# EAGLE library part TE0720 (library TE0720 GigaZee.LIB-Eagle)
TE0720 datasheets LSHM Connector <http://www.samtec.com/ProductInformation/TechnicalSpecifications/Prints.aspx?series=LSHM> TE0720 Trenz archive <http://www.trenz-electronic.de/de/download/d0/Trenz_Electronic/d1/TE0720-GigaZee.html> update 26.07.2013: - FPGA pins added to symbols, see https://wiki.trenz-electronic.de/display/TE0720/Pinout update 07.04.2014: - typo B34_L10_P and B23_L10_N had wrong FPGA pin designed by: steffen.mauch (at) gmail.com copyright (c) 2013
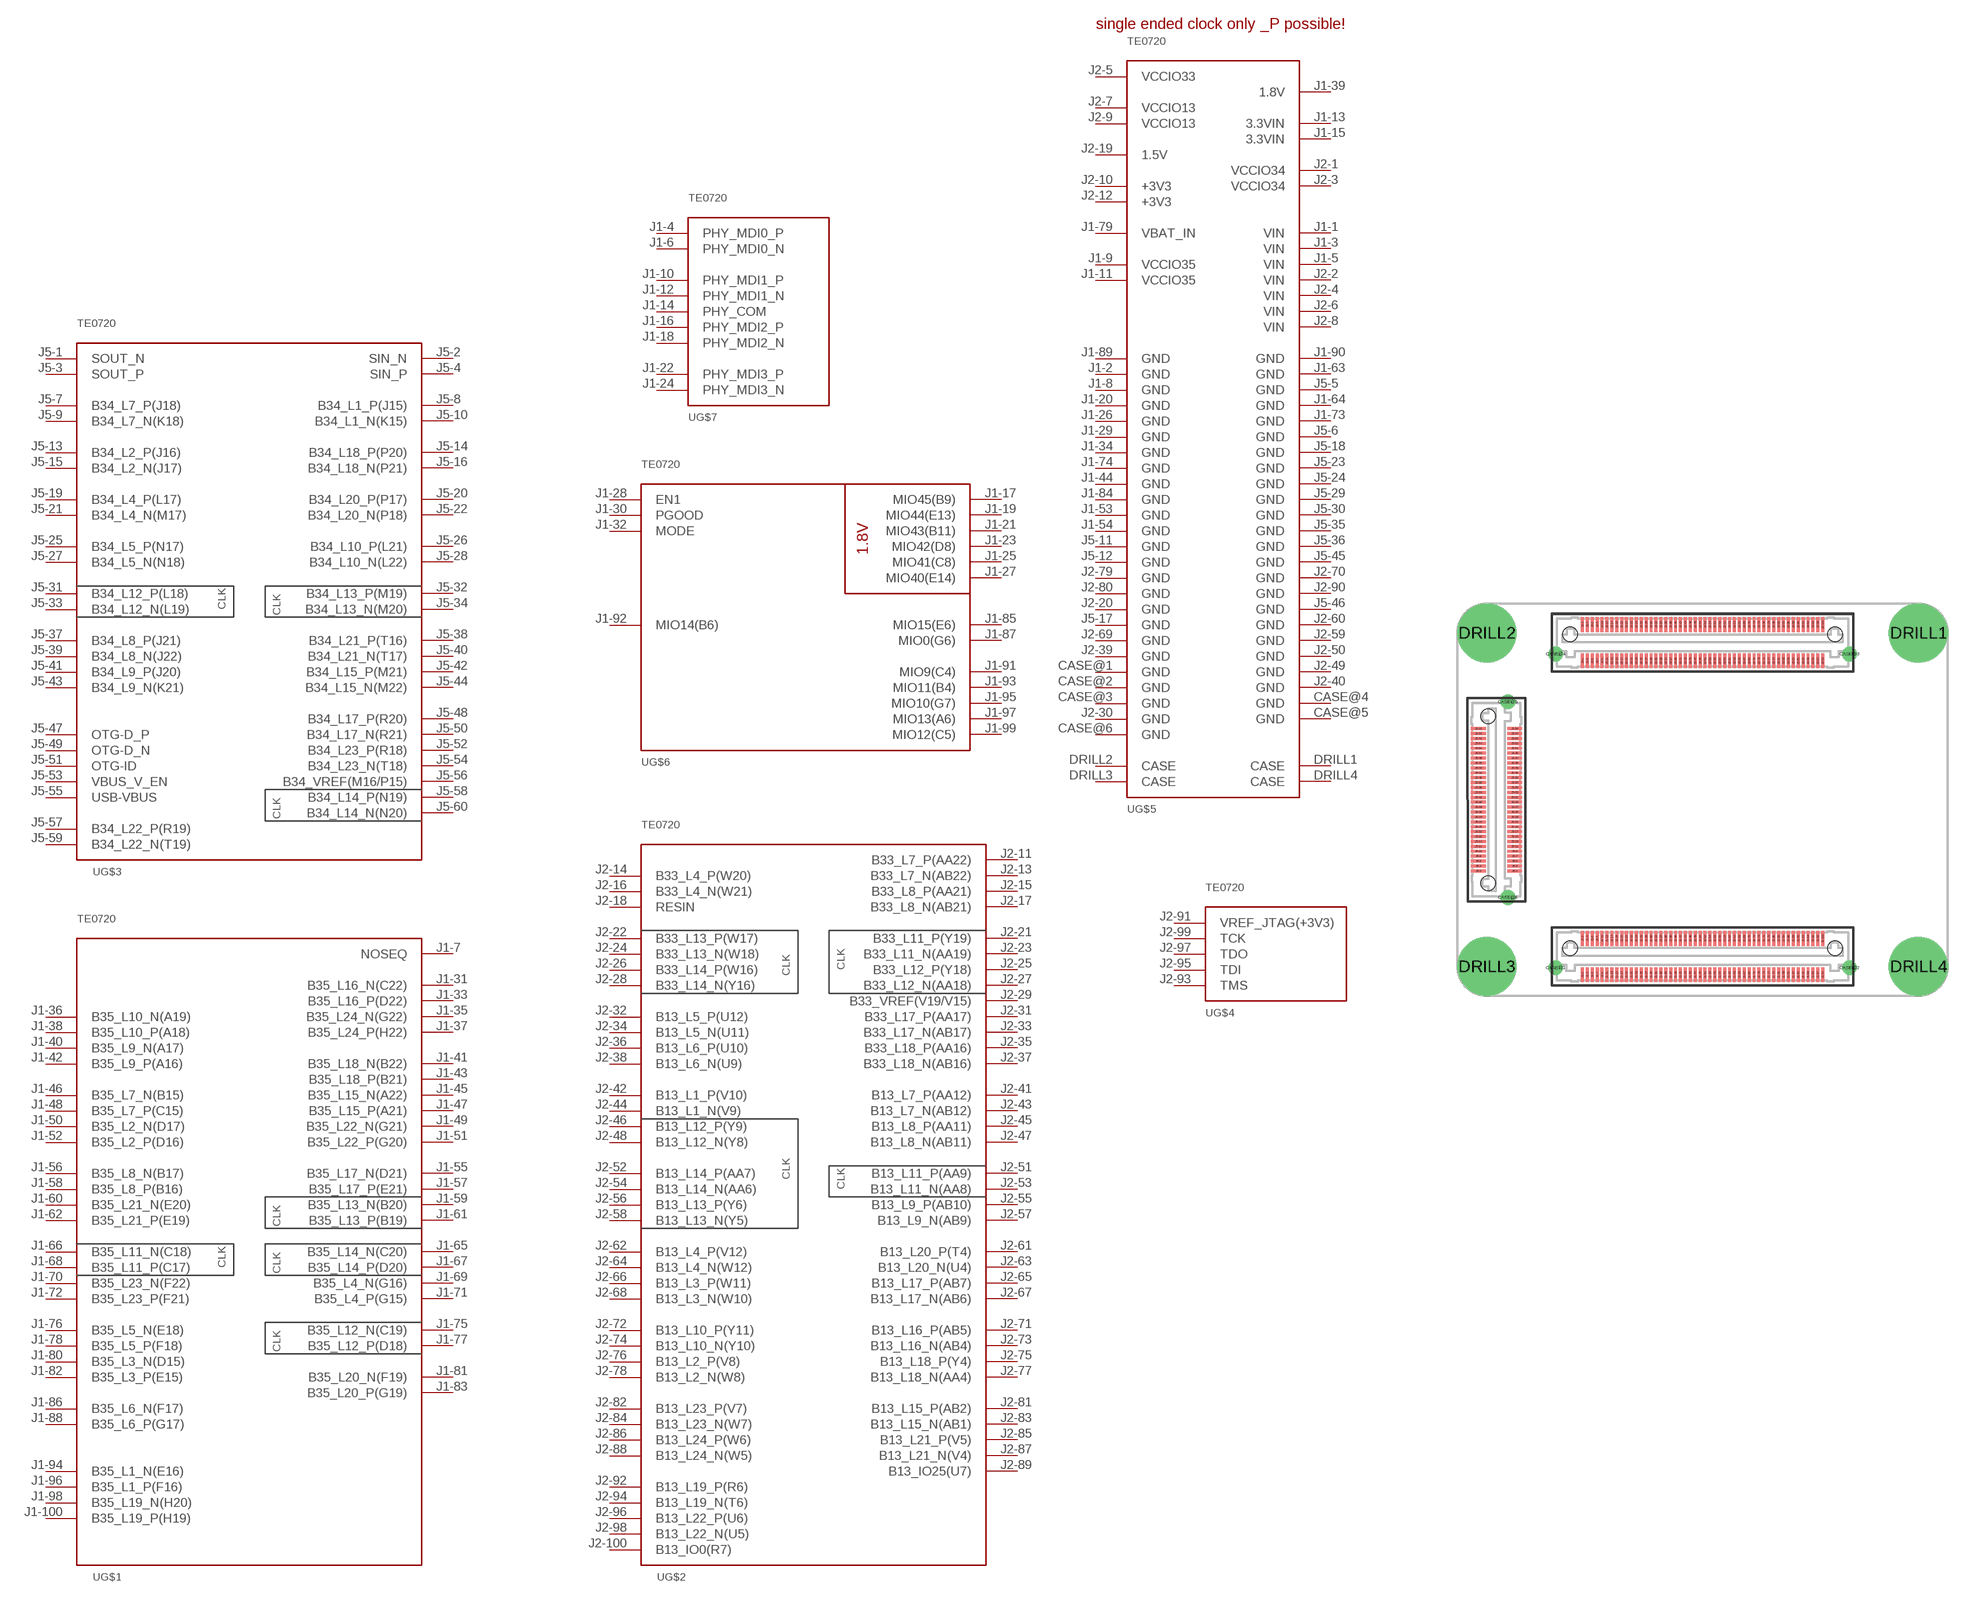
[diagram p0: symbol with the pads of TE07XX-01; footprint TE07XX-01]

Designator prefix -; gates G$1=TE0720-J1 G$2=TE0720-J2 G$3=TE0720-J5 G$6=TE0720-MIO G$5=TE0720-PWR G$4=TE0720-JTAG G$7=TE0720-PHY

## TE0720  [TE07XX-01]
CASE@1  G$5:GND  sup
CASE@2  G$5:GND  sup
CASE@3  G$5:GND  sup
CASE@4  G$5:GND  sup
CASE@5  G$5:GND  sup
CASE@6  G$5:GND  sup
DRILL1  G$5:CASE  sup
DRILL2  G$5:CASE  sup
DRILL3  G$5:CASE  sup
DRILL4  G$5:CASE  sup
J1-1  G$5:VIN  pwr
J1-2  G$5:GND  sup
J1-3  G$5:VIN  pwr
J1-4  G$7:PHY_MDI0_P
J1-5  G$5:VIN  pwr
J1-6  G$7:PHY_MDI0_N
J1-7  G$1:NOSEQ
J1-8  G$5:GND  sup
J1-9  G$5:VCCIO35
J1-10  G$7:PHY_MDI1_P
J1-11  G$5:VCCIO35
J1-12  G$7:PHY_MDI1_N
J1-13  G$5:3.3VIN  pwr
J1-14  G$7:PHY_COM
J1-15  G$5:3.3VIN  pwr
J1-16  G$7:PHY_MDI2_P
J1-17  G$6:MIO45(B9)
J1-18  G$7:PHY_MDI2_N
J1-19  G$6:MIO44(E13)
J1-20  G$5:GND  sup
J1-21  G$6:MIO43(B11)
J1-22  G$7:PHY_MDI3_P
J1-23  G$6:MIO42(D8)
J1-24  G$7:PHY_MDI3_N
J1-25  G$6:MIO41(C8)
J1-26  G$5:GND  sup
J1-27  G$6:MIO40(E14)
J1-28  G$6:EN1
J1-29  G$5:GND  sup
J1-30  G$6:PGOOD
J1-31  G$1:B35_L16_N(C22)
J1-32  G$6:MODE
J1-33  G$1:B35_L16_P(D22)
J1-34  G$5:GND  sup
J1-35  G$1:B35_L24_N(G22)
J1-36  G$1:B35_L10_N(A19)
J1-37  G$1:B35_L24_P(H22)
J1-38  G$1:B35_L10_P(A18)
J1-39  G$5:1.8V
J1-40  G$1:B35_L9_N(A17)
J1-41  G$1:B35_L18_N(B22)
J1-42  G$1:B35_L9_P(A16)
J1-43  G$1:B35_L18_P(B21)
J1-44  G$5:GND  sup
J1-45  G$1:B35_L15_N(A22)
J1-46  G$1:B35_L7_N(B15)
J1-47  G$1:B35_L15_P(A21)
J1-48  G$1:B35_L7_P(C15)
J1-49  G$1:B35_L22_N(G21)
J1-50  G$1:B35_L2_N(D17)
J1-51  G$1:B35_L22_P(G20)
J1-52  G$1:B35_L2_P(D16)
J1-53  G$5:GND  sup
J1-54  G$5:GND  sup
J1-55  G$1:B35_L17_N(D21)
J1-56  G$1:B35_L8_N(B17)
J1-57  G$1:B35_L17_P(E21)
J1-58  G$1:B35_L8_P(B16)
J1-59  G$1:B35_L13_N(B20)
J1-60  G$1:B35_L21_N(E20)
J1-61  G$1:B35_L13_P(B19)
J1-62  G$1:B35_L21_P(E19)
J1-63  G$5:GND  sup
J1-64  G$5:GND  sup
J1-65  G$1:B35_L14_N(C20)
J1-66  G$1:B35_L11_N(C18)
J1-67  G$1:B35_L14_P(D20)
J1-68  G$1:B35_L11_P(C17)
J1-69  G$1:B35_L4_N(G16)
J1-70  G$1:B35_L23_N(F22)
J1-71  G$1:B35_L4_P(G15)
J1-72  G$1:B35_L23_P(F21)
J1-73  G$5:GND  sup
J1-74  G$5:GND  sup
J1-75  G$1:B35_L12_N(C19)
J1-76  G$1:B35_L5_N(E18)
J1-77  G$1:B35_L12_P(D18)
J1-78  G$1:B35_L5_P(F18)
J1-79  G$5:VBAT_IN  sup
J1-80  G$1:B35_L3_N(D15)
J1-81  G$1:B35_L20_N(F19)
J1-82  G$1:B35_L3_P(E15)
J1-83  G$1:B35_L20_P(G19)
J1-84  G$5:GND  sup
J1-85  G$6:MIO15(E6)
J1-86  G$1:B35_L6_N(F17)
J1-87  G$6:MIO0(G6)
J1-88  G$1:B35_L6_P(G17)
J1-89  G$5:GND  sup
J1-90  G$5:GND  sup
J1-91  G$6:MIO9(C4)
J1-92  G$6:MIO14(B6)
J1-93  G$6:MIO11(B4)
J1-94  G$1:B35_L1_N(E16)
J1-95  G$6:MIO10(G7)
J1-96  G$1:B35_L1_P(F16)
J1-97  G$6:MIO13(A6)
J1-98  G$1:B35_L19_N(H20)
J1-99  G$6:MIO12(C5)
J1-100  G$1:B35_L19_P(H19)
J2-1  G$5:VCCIO34  pwr
J2-2  G$5:VIN  pwr
J2-3  G$5:VCCIO34  pwr
J2-4  G$5:VIN  pwr
J2-5  G$5:VCCIO33  pwr
J2-6  G$5:VIN  pwr
J2-7  G$5:VCCIO13  pwr
J2-8  G$5:VIN  pwr
J2-9  G$5:VCCIO13  pwr
J2-10  G$5:+3V3  pwr
J2-11  G$2:B33_L7_P(AA22)
J2-12  G$5:+3V3  pwr
J2-13  G$2:B33_L7_N(AB22)
J2-14  G$2:B33_L4_P(W20)
J2-15  G$2:B33_L8_P(AA21)
J2-16  G$2:B33_L4_N(W21)
J2-17  G$2:B33_L8_N(AB21)
J2-18  G$2:RESIN  in
J2-19  G$5:1.5V  sup
J2-20  G$5:GND  sup
J2-21  G$2:B33_L11_P(Y19)
J2-22  G$2:B33_L13_P(W17)
J2-23  G$2:B33_L11_N(AA19)
J2-24  G$2:B33_L13_N(W18)
J2-25  G$2:B33_L12_P(Y18)
J2-26  G$2:B33_L14_P(W16)
J2-27  G$2:B33_L12_N(AA18)
J2-28  G$2:B33_L14_N(Y16)
J2-29  G$2:B33_VREF(V19/V15)
J2-30  G$5:GND  sup
J2-31  G$2:B33_L17_P(AA17)
J2-32  G$2:B13_L5_P(U12)
J2-33  G$2:B33_L17_N(AB17)
J2-34  G$2:B13_L5_N(U11)
J2-35  G$2:B33_L18_P(AA16)
J2-36  G$2:B13_L6_P(U10)
J2-37  G$2:B33_L18_N(AB16)
J2-38  G$2:B13_L6_N(U9)
J2-39  G$5:GND  sup
J2-40  G$5:GND  sup
J2-41  G$2:B13_L7_P(AA12)
J2-42  G$2:B13_L1_P(V10)
J2-43  G$2:B13_L7_N(AB12)
J2-44  G$2:B13_L1_N(V9)
J2-45  G$2:B13_L8_P(AA11)
J2-46  G$2:B13_L12_P(Y9)
J2-47  G$2:B13_L8_N(AB11)
J2-48  G$2:B13_L12_N(Y8)
J2-49  G$5:GND  sup
J2-50  G$5:GND  sup
J2-51  G$2:B13_L11_P(AA9)
J2-52  G$2:B13_L14_P(AA7)
J2-53  G$2:B13_L11_N(AA8)
J2-54  G$2:B13_L14_N(AA6)
J2-55  G$2:B13_L9_P(AB10)
J2-56  G$2:B13_L13_P(Y6)
J2-57  G$2:B13_L9_N(AB9)
J2-58  G$2:B13_L13_N(Y5)
J2-59  G$5:GND  sup
J2-60  G$5:GND  sup
J2-61  G$2:B13_L20_P(T4)
J2-62  G$2:B13_L4_P(V12)
J2-63  G$2:B13_L20_N(U4)
J2-64  G$2:B13_L4_N(W12)
J2-65  G$2:B13_L17_P(AB7)
J2-66  G$2:B13_L3_P(W11)
J2-67  G$2:B13_L17_N(AB6)
J2-68  G$2:B13_L3_N(W10)
J2-69  G$5:GND  sup
J2-70  G$5:GND  sup
J2-71  G$2:B13_L16_P(AB5)
J2-72  G$2:B13_L10_P(Y11)
J2-73  G$2:B13_L16_N(AB4)
J2-74  G$2:B13_L10_N(Y10)
J2-75  G$2:B13_L18_P(Y4)
J2-76  G$2:B13_L2_P(V8)
J2-77  G$2:B13_L18_N(AA4)
J2-78  G$2:B13_L2_N(W8)
J2-79  G$5:GND  sup
J2-80  G$5:GND  sup
J2-81  G$2:B13_L15_P(AB2)
J2-82  G$2:B13_L23_P(V7)
J2-83  G$2:B13_L15_N(AB1)
J2-84  G$2:B13_L23_N(W7)
J2-85  G$2:B13_L21_P(V5)
J2-86  G$2:B13_L24_P(W6)
J2-87  G$2:B13_L21_N(V4)
J2-88  G$2:B13_L24_N(W5)
J2-89  G$2:B13_IO25(U7)
J2-90  G$5:GND  sup
J2-91  G$4:VREF_JTAG(+3V3)
J2-92  G$2:B13_L19_P(R6)
J2-93  G$4:TMS
J2-94  G$2:B13_L19_N(T6)
J2-95  G$4:TDI
J2-96  G$2:B13_L22_P(U6)
J2-97  G$4:TDO
J2-98  G$2:B13_L22_N(U5)
J2-99  G$4:TCK
J2-100  G$2:B13_IO0(R7)
J5-1  G$3:SOUT_N
J5-2  G$3:SIN_N
J5-3  G$3:SOUT_P
J5-4  G$3:SIN_P
J5-5  G$5:GND  sup
J5-6  G$5:GND  sup
J5-7  G$3:B34_L7_P(J18)
J5-8  G$3:B34_L1_P(J15)
J5-9  G$3:B34_L7_N(K18)
J5-10  G$3:B34_L1_N(K15)
J5-11  G$5:GND  sup
J5-12  G$5:GND  sup
J5-13  G$3:B34_L2_P(J16)
J5-14  G$3:B34_L18_P(P20)
J5-15  G$3:B34_L2_N(J17)
J5-16  G$3:B34_L18_N(P21)
J5-17  G$5:GND  sup
J5-18  G$5:GND  sup
J5-19  G$3:B34_L4_P(L17)
J5-20  G$3:B34_L20_P(P17)
J5-21  G$3:B34_L4_N(M17)
J5-22  G$3:B34_L20_N(P18)
J5-23  G$5:GND  sup
J5-24  G$5:GND  sup
J5-25  G$3:B34_L5_P(N17)
J5-26  G$3:B34_L10_P(L21)
J5-27  G$3:B34_L5_N(N18)
J5-28  G$3:B34_L10_N(L22)
J5-29  G$5:GND  sup
J5-30  G$5:GND  sup
J5-31  G$3:B34_L12_P(L18)
J5-32  G$3:B34_L13_P(M19)
J5-33  G$3:B34_L12_N(L19)
J5-34  G$3:B34_L13_N(M20)
J5-35  G$5:GND  sup
J5-36  G$5:GND  sup
J5-37  G$3:B34_L8_P(J21)
J5-38  G$3:B34_L21_P(T16)
J5-39  G$3:B34_L8_N(J22)
J5-40  G$3:B34_L21_N(T17)
J5-41  G$3:B34_L9_P(J20)
J5-42  G$3:B34_L15_P(M21)
J5-43  G$3:B34_L9_N(K21)
J5-44  G$3:B34_L15_N(M22)
J5-45  G$5:GND  sup
J5-46  G$5:GND  sup
J5-47  G$3:OTG-D_P
J5-48  G$3:B34_L17_P(R20)
J5-49  G$3:OTG-D_N
J5-50  G$3:B34_L17_N(R21)
J5-51  G$3:OTG-ID
J5-52  G$3:B34_L23_P(R18)
J5-53  G$3:VBUS_V_EN
J5-54  G$3:B34_L23_N(T18)
J5-55  G$3:USB-VBUS
J5-56  G$3:B34_VREF(M16/P15)
J5-57  G$3:B34_L22_P(R19)
J5-58  G$3:B34_L14_P(N19)
J5-59  G$3:B34_L22_N(T19)
J5-60  G$3:B34_L14_N(N20)

## Footprint TE07XX-01 (pad centres in mm)
PCB Matrix Packages Pins are already swapped, so everything is fine! see Carrier Board Checklist <https://wiki.trenz-electronic.de/display/TE0720/Carrier+Board+Checklist>
drill 1: CASE@1 -14.975,2.863; CASE@2 14.975,2.863; CASE@3 14.975,34.855; CASE@4 -14.975,34.855; CASE@5 -19.85,29.981; CASE@6 -19.85,10.03
drill 3 pad 6: DRILL1 22,37; DRILL2 -22,37; DRILL3 -22,3; DRILL4 22,3
smd 0.3 x 1.5: J1-1 -12.25,2.15; J1-2 -12.25,5.85; J1-3 -11.75,2.15; J1-4 -11.75,5.85; J1-5 -11.25,2.15; J1-6 -11.25,5.85; J1-7 -10.75,2.15; J1-8 -10.75,5.85; J1-9 -10.25,2.15; J1-10 -10.25,5.85; J1-11 -9.75,2.15; J1-12 -9.75,5.85; J1-13 -9.25,2.15; J1-14 -9.25,5.85; J1-15 -8.75,2.15; J1-16 -8.75,5.85; J1-17 -8.25,2.15; J1-18 -8.25,5.85; J1-19 -7.75,2.15; J1-20 -7.75,5.85; J1-21 -7.25,2.15; J1-22 -7.25,5.85; J1-23 -6.75,2.15; J1-24 -6.75,5.85; J1-25 -6.25,2.15; J1-26 -6.25,5.85; J1-27 -5.75,2.15; J1-28 -5.75,5.85; J1-29 -5.25,2.15; J1-30 -5.25,5.85; J1-31 -4.75,2.15; J1-32 -4.75,5.85; J1-33 -4.25,2.15; J1-34 -4.25,5.85; J1-35 -3.75,2.15; J1-36 -3.75,5.85; J1-37 -3.25,2.15; J1-38 -3.25,5.85; J1-39 -2.75,2.15; J1-40 -2.75,5.85; J1-41 -2.25,2.15; J1-42 -2.25,5.85; J1-43 -1.75,2.15; J1-44 -1.75,5.85; J1-45 -1.25,2.15; J1-46 -1.25,5.85; J1-47 -0.75,2.15; J1-48 -0.75,5.85; J1-49 -0.25,2.15; J1-50 -0.25,5.85; J1-51 0.25,2.15; J1-52 0.25,5.85; J1-53 0.75,2.15; J1-54 0.75,5.85; J1-55 1.25,2.15; J1-56 1.25,5.85; J1-57 1.75,2.15; J1-58 1.75,5.85; J1-59 2.25,2.15; J1-60 2.25,5.85; J1-61 2.75,2.15; J1-62 2.75,5.85; J1-63 3.25,2.15; J1-64 3.25,5.85; J1-65 3.75,2.15; J1-66 3.75,5.85; J1-67 4.25,2.15; J1-68 4.25,5.85; J1-69 4.75,2.15; J1-70 4.75,5.85; J1-71 5.25,2.15; J1-72 5.25,5.85; J1-73 5.75,2.15; J1-74 5.75,5.85; J1-75 6.25,2.15; J1-76 6.25,5.85; J1-77 6.75,2.15; J1-78 6.75,5.85; J1-79 7.25,2.15; J1-80 7.25,5.85; J1-81 7.75,2.15; J1-82 7.75,5.85; J1-83 8.25,2.15; J1-84 8.25,5.85; J1-85 8.75,2.15; J1-86 8.75,5.85; J1-87 9.25,2.15; J1-88 9.25,5.85; J1-89 9.75,2.15; J1-90 9.75,5.85; J1-91 10.25,2.15; J1-92 10.25,5.85; J1-93 10.75,2.15; J1-94 10.75,5.85; J1-95 11.25,2.15; J1-96 11.25,5.85; J1-97 11.75,2.15; J1-98 11.75,5.85; J1-99 12.25,2.15; J1-100 12.25,5.85; J2-1 -12.25,34.15; J2-2 -12.25,37.85; J2-3 -11.75,34.15; J2-4 -11.75,37.85; J2-5 -11.25,34.15; J2-6 -11.25,37.85; J2-7 -10.75,34.15; J2-8 -10.75,37.85; J2-9 -10.25,34.15; J2-10 -10.25,37.85; J2-11 -9.75,34.15; J2-12 -9.75,37.85; J2-13 -9.25,34.15; J2-14 -9.25,37.85; J2-15 -8.75,34.15; J2-16 -8.75,37.85; J2-17 -8.25,34.15; J2-18 -8.25,37.85; J2-19 -7.75,34.15; J2-20 -7.75,37.85; J2-21 -7.25,34.15; J2-22 -7.25,37.85; J2-23 -6.75,34.15; J2-24 -6.75,37.85; J2-25 -6.25,34.15; J2-26 -6.25,37.85; J2-27 -5.75,34.15; J2-28 -5.75,37.85; J2-29 -5.25,34.15; J2-30 -5.25,37.85; J2-31 -4.75,34.15; J2-32 -4.75,37.85; J2-33 -4.25,34.15; J2-34 -4.25,37.85; J2-35 -3.75,34.15; J2-36 -3.75,37.85; J2-37 -3.25,34.15; J2-38 -3.25,37.85; J2-39 -2.75,34.15; J2-40 -2.75,37.85; J2-41 -2.25,34.15; J2-42 -2.25,37.85; J2-43 -1.75,34.15; J2-44 -1.75,37.85; J2-45 -1.25,34.15; J2-46 -1.25,37.85; J2-47 -0.75,34.15; J2-48 -0.75,37.85; J2-49 -0.25,34.15; J2-50 -0.25,37.85; J2-51 0.25,34.15; J2-52 0.25,37.85; J2-53 0.75,34.15; J2-54 0.75,37.85; J2-55 1.25,34.15; J2-56 1.25,37.85; J2-57 1.75,34.15; J2-58 1.75,37.85; J2-59 2.25,34.15; J2-60 2.25,37.85; J2-61 2.75,34.15; J2-62 2.75,37.85; J2-63 3.25,34.15; J2-64 3.25,37.85; J2-65 3.75,34.15; J2-66 3.75,37.85; J2-67 4.25,34.15; J2-68 4.25,37.85; J2-69 4.75,34.15; J2-70 4.75,37.85; J2-71 5.25,34.15; J2-72 5.25,37.85; J2-73 5.75,34.15; J2-74 5.75,37.85; J2-75 6.25,34.15; J2-76 6.25,37.85; J2-77 6.75,34.15; J2-78 6.75,37.85; J2-79 7.25,34.15; J2-80 7.25,37.85; J2-81 7.75,34.15; J2-82 7.75,37.85; J2-83 8.25,34.15; J2-84 8.25,37.85; J2-85 8.75,34.15; J2-86 8.75,37.85; J2-87 9.25,34.15; J2-88 9.25,37.85; J2-89 9.75,34.15; J2-90 9.75,37.85; J2-91 10.25,34.15; J2-92 10.25,37.85; J2-93 10.75,34.15; J2-94 10.75,37.85; J2-95 11.25,34.15; J2-96 11.25,37.85; J2-97 11.75,34.15; J2-98 11.75,37.85; J2-99 12.25,34.15; J2-100 12.25,37.85
smd 1.5 x 0.3: J5-1 -19.149,12.745; J5-2 -22.85,12.744; J5-3 -19.149,13.245; J5-4 -22.85,13.244; J5-5 -19.149,13.745; J5-6 -22.85,13.744; J5-7 -19.149,14.245; J5-8 -22.85,14.244; J5-9 -19.149,14.745; J5-10 -22.85,14.744; J5-11 -19.149,15.245; J5-12 -22.85,15.244; J5-13 -19.149,15.745; J5-14 -22.85,15.744; J5-15 -19.149,16.245; J5-16 -22.85,16.244; J5-17 -19.149,16.745; J5-18 -22.85,16.744; J5-19 -19.149,17.245; J5-20 -22.85,17.244; J5-21 -19.149,17.745; J5-22 -22.85,17.744; J5-23 -19.149,18.245; J5-24 -22.85,18.244; J5-25 -19.149,18.745; J5-26 -22.85,18.744; J5-27 -19.149,19.245; J5-28 -22.85,19.244; J5-29 -19.149,19.745; J5-30 -22.85,19.744; J5-31 -19.149,20.245; J5-32 -22.85,20.244; J5-33 -19.149,20.745; J5-34 -22.85,20.744; J5-35 -19.149,21.245; J5-36 -22.85,21.244; J5-37 -19.149,21.745; J5-38 -22.85,21.744; J5-39 -19.149,22.245; J5-40 -22.85,22.244; J5-41 -19.149,22.745; J5-42 -22.85,22.744; J5-43 -19.149,23.245; J5-44 -22.85,23.244; J5-45 -19.149,23.745; J5-46 -22.85,23.744; J5-47 -19.149,24.245; J5-48 -22.85,24.244; J5-49 -19.149,24.745; J5-50 -22.85,24.744; J5-51 -19.149,25.245; J5-52 -22.85,25.244; J5-53 -19.149,25.745; J5-54 -22.85,25.744; J5-55 -19.149,26.245; J5-56 -22.85,26.244; J5-57 -19.149,26.745; J5-58 -22.85,26.744; J5-59 -19.149,27.245; J5-60 -22.85,27.244
hole 1.5 at -13.5,4.863
hole 1.5 at 13.5,4.863
hole 1.5 at -13.5,36.855
hole 1.5 at 13.5,36.855
hole 1.5 at -21.85,11.495
hole 1.5 at -21.85,28.506